# Altium footprint library PCB_Modules.PcbLib: 1 footprints
Each footprint in its own frame and in the unit in brackets; x right, y up, seen from the top. Pads: shape width x height; smd on the part's side, far side on the other; paste and mask are expansions set on the pad; w line width, h text height; cw(c..) or ccw(c..) is an arc to the next point about the centre after c.
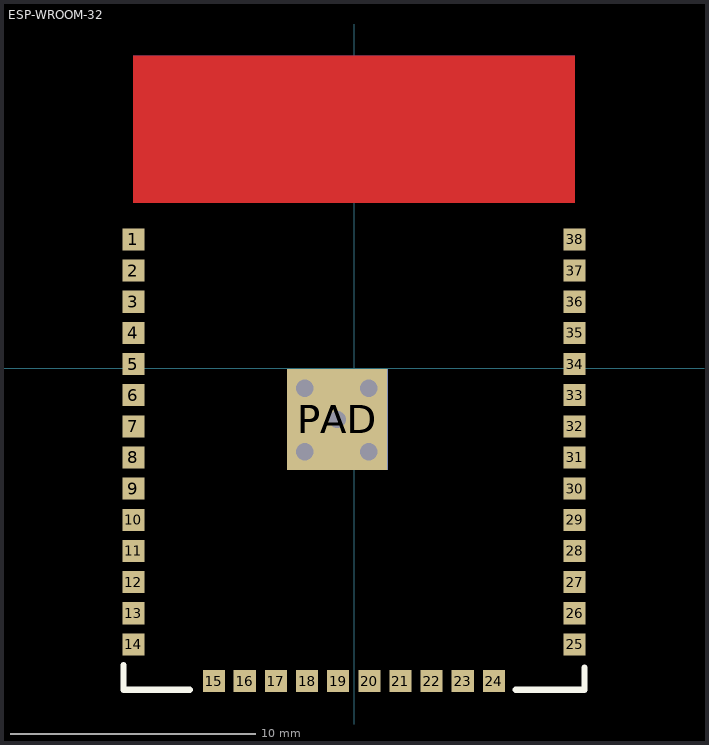
[diagram p0: the footprint, top view; thin cyan lines are the x and y axes]

## ESP-WROOM-32 [mm]
pads (40):
  rect 0.9x0.9 smd: 1(-9,5.26) 2(-9,3.99) 3(-9,2.72) 4(-9,1.45) 5(-9,0.18) 6(-9,-1.09) 7(-9,-2.36) 8(-9,-3.63) 9(-9,-4.9) 10(-9,-6.17) 11(-9,-7.44) 12(-9,-8.71) 13(-9,-9.98) 14(-9,-11.25) 15(-5.715,-12.75) 16(-4.455,-12.75) 17(-3.185,-12.75) 18(-1.915,-12.75) 19(-0.645,-12.75) 20(0.625,-12.75) 21(1.895,-12.75) 22(3.165,-12.75) 23(4.435,-12.75) 24(5.705,-12.75) 25(9,-11.25) 26(9,-9.98) 27(9,-8.71) 28(9,-7.44) 29(9,-6.17) 30(9,-4.9) 31(9,-3.63) 32(9,-2.36) 33(9,-1.09) 34(9,0.18) 35(9,1.45) 36(9,2.72) 37(9,3.99) 38(9,5.26)
  rect 4.1x4.1 smd: PAD(-0.68,-2.08)
  rect 4.1x4.1 smd far side: PAD(-0.68,-2.08)
via -2,-0.8 diameter 1.27 hole 0.711
via 0.6,-0.8 diameter 1.27 hole 0.711
via 0.6,-3.4 diameter 1.27 hole 0.711
via -2,-3.4 diameter 1.27 hole 0.711
via -0.68,-2.08 diameter 1.27 hole 0.711
Top Layer:
  pour cut-out: -9,12.75 9,12.75 9,6.75 -9,6.75
Bottom Layer:
  pour cut-out: -9,12.75 9,12.75 9,6.75 -9,6.75
Top Overlay:
  lines w0.254: -9.4,-12.1 -9.4,-13.1 -6.7,-13.1 ; 6.6,-13.1 9.4,-13.1 9.4,-12.2
3D body "User Library-esp-wroom-32.step": height 3, standoff -0.04, extent -9.035,-12.79 9.035,12.75